# EAGLE library part ARDUINO_MKR1000 (library CaliBeta-Modulos)
Arduino MKR1000, conexion WiFi integrada, ideal para desarrrollos IOT conconocimientos basicos
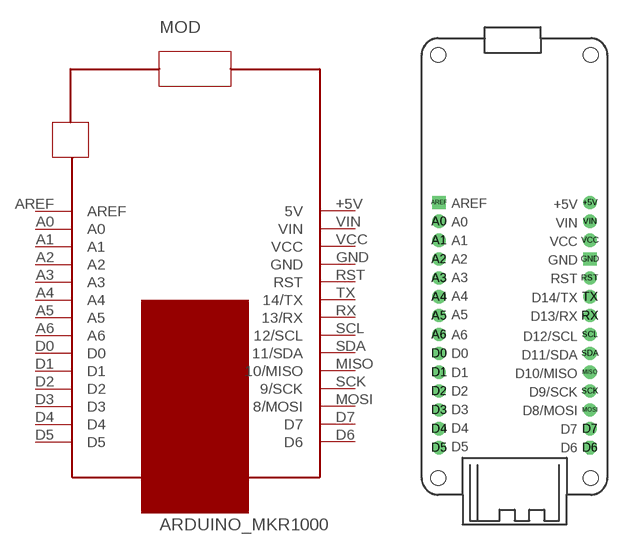
[diagram p7: symbol with the pads of ARDUINO_MKR1000; footprint ARDUINO_MKR1000]

Designator prefix MOD

## ARDUINO_MKR1000  [ARDUINO_MKR1000]
+5V  5V  pwr
A0  A0
A1  A1
A2  A2
A3  A3
A4  A4
A5  A5
A6  A6
AREF  AREF
D0  D0
D1  D1
D2  D2
D3  D3
D4  D4
D5  D5
D6  D6
D7  D7
GND  GND  pwr
MISO  10/MISO
MOSI  8/MOSI
RST  RST
RX  13/RX
SCK  9/SCK
SCL  12/SCL
SDA  11/SDA
TX  14/TX
VCC  VCC  pwr
VIN  VIN  pwr

## Footprint ARDUINO_MKR1000 (pad centres in mm)
drill 0.9 pad 1.778: +5V 22.66,39.372; A0 2.34,36.832; A1 2.34,34.292; A2 2.34,31.752; A3 2.34,29.212; A4 2.34,26.672; A5 2.34,24.132; A6 2.34,21.592; D0 2.34,19.052; D1 2.34,16.512; D2 2.34,13.972; D3 2.34,11.432; D4 2.34,8.892; D5 2.34,6.352; D7 22.66,8.892; MISO 22.66,16.512; MOSI 22.66,11.432; RST 22.66,29.212; RX 22.66,24.132; SCK 22.66,13.972; SCL 22.66,21.592; SDA 22.66,19.052; TX 22.66,26.672; VCC 22.66,34.292; VIN 22.66,36.832
drill 0.9 pad 1.778 square: AREF 2.34,39.372; GND 22.66,31.752
drill 0.9 pad 1.778 octagon: D6 22.66,6.352
hole 2 at 22.75,2.25
hole 2 at 2.25,2.25
hole 2 at 2.25,59.25
hole 2 at 22.75,59.25